# Altium footprint library Minna Project.PcbLib: 20 footprints (part 1 of 2)
Each footprint in its own frame and in the unit in brackets; x right, y up, seen from the top. Pads: shape width x height; smd on the part's side, far side on the other; paste and mask are expansions set on the pad; w line width, h text height; cw(c..) or ccw(c..) is an arc to the next point about the centre after c.
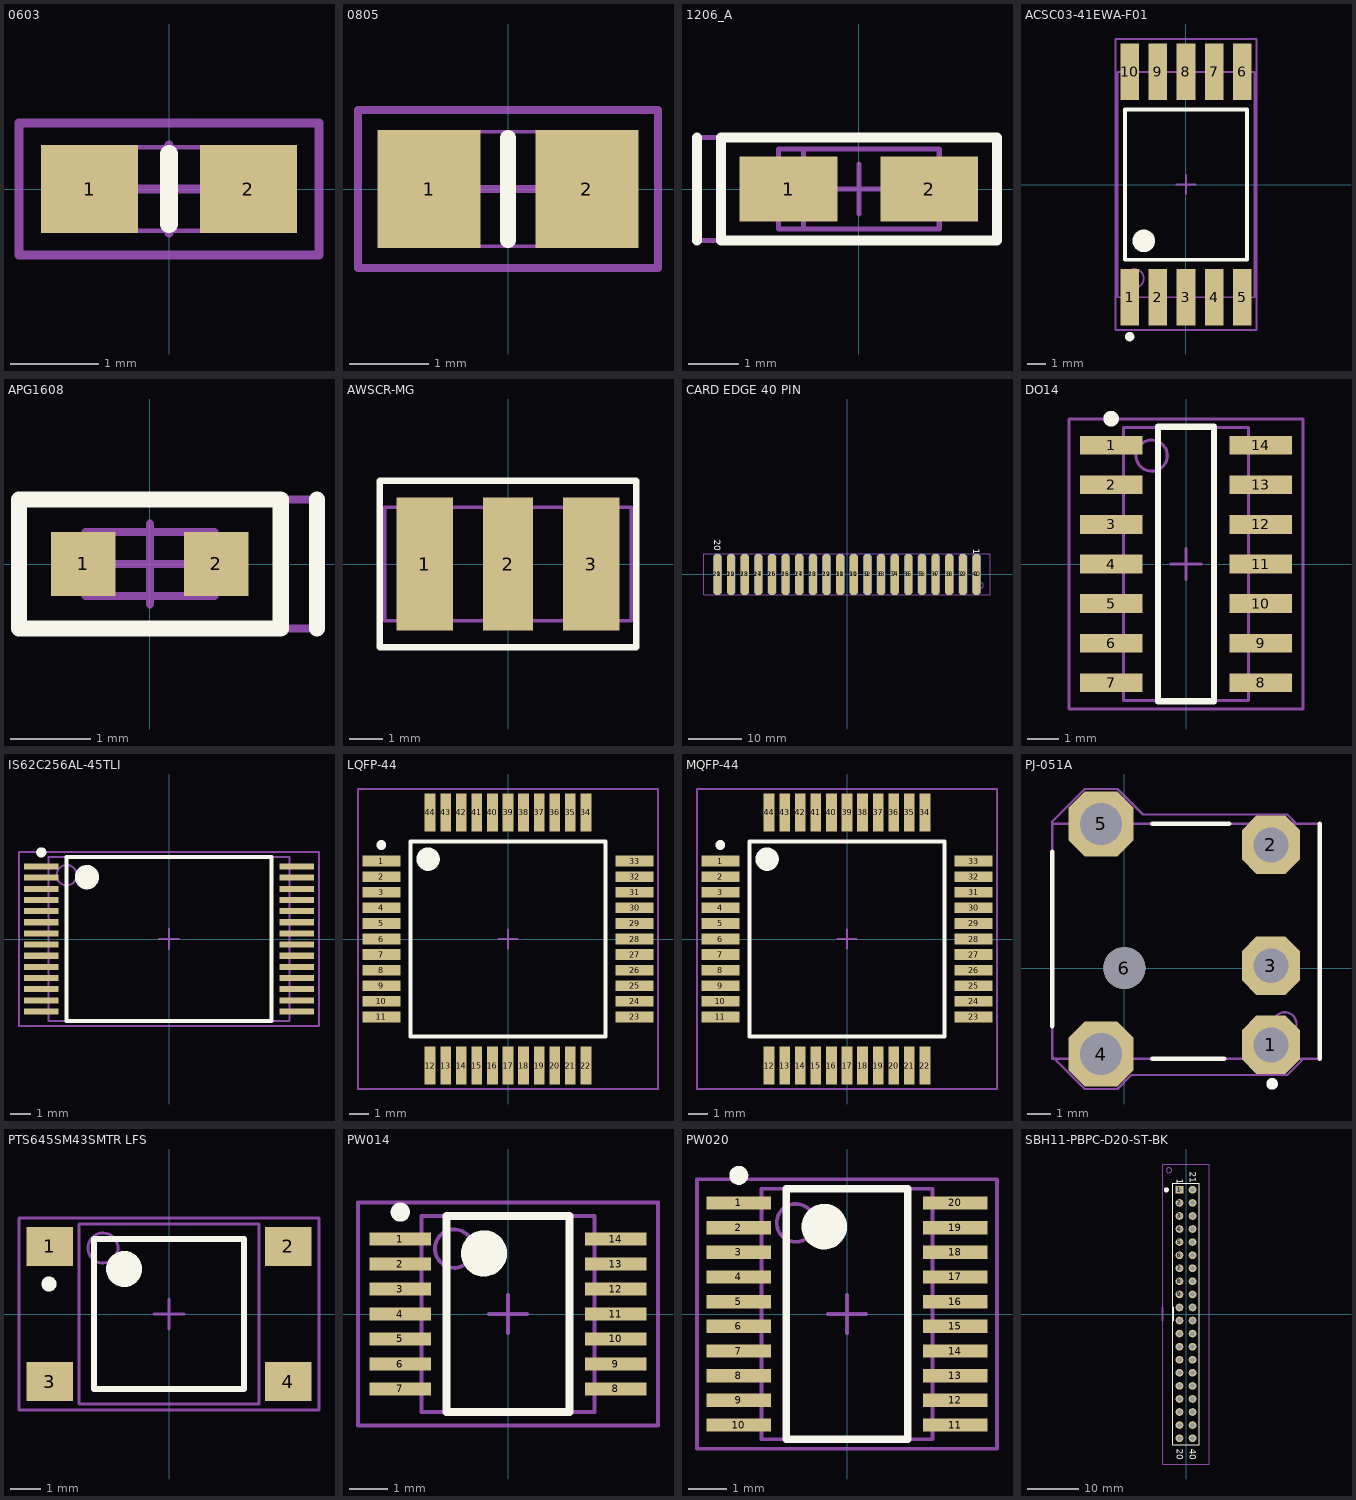
[diagram p0: the footprints below, top view; thin cyan lines are the x and y axes]

## 0603 [mm]
height 0.8
pads (2):
  rect 1.1x1 smd: 1(-0.9,0) 2(0.9,0)
Top Overlay:
  lines w0.2: 0,-0.4 0,0.4
Component Body:
  lines w0.05: -0.875,-0.475 0.875,-0.475 0.875,0.475 -0.875,0.475 -0.875,-0.475
Assembly Top:
  lines w0.102: -1.7,-0.75 1.7,-0.75 1.7,0.75 -1.7,0.75 -1.7,-0.75
  text ".Designator" at -0.972,-0.345 h0.64
Courtyard Top:
  lines w0.1: -0.5,0 0.5,0 ; 0,-0.5 0,0.5 ; -1.7,-0.75 1.7,-0.75 1.7,0.75 -1.7,0.75 -1.7,-0.75
3D body: height 0.8, standoff 0, extent -0.874,-0.474 0.874,0.474

## 0805 [mm]
height 1
pads (2):
  rect 1.3x1.5 smd: 1(-1,0) 2(1,0)
Top Overlay:
  lines w0.2: 0,-0.65 0,0.65
Component Body:
  lines w0.05: -1.1,-0.725 -1.1,0.725 1.1,0.725 1.1,-0.725 -1.1,-0.725
Assembly Top:
  lines w0.102: -1.9,-1 -1.9,1 1.9,1 1.9,-1 -1.9,-1
  text ".Designator" at -0.659,-0.45 h0.64
Courtyard Top:
  lines w0.1: -0.5,0 0.5,0 ; 0,-0.5 0,0.5 ; -1.9,-1 -1.9,1 1.9,1 1.9,-1 -1.9,-1
3D body: height 1.27, standoff 0, extent -1.099,-0.724 1.099,0.724

## 1206_A [mm]
height 1.8
pads (2):
  rect 1.95x1.3 smd: 1(-1.4,0) 2(1.4,0)
Top Overlay:
  lines w0.2: -3.225,-1.025 -3.225,1.025 ; -2.75,-1.025 2.75,-1.025 2.75,1.025 -2.75,1.025 -2.75,-1.025
Component Body:
  lines w0.1: -1.6,-0.8 1.6,-0.8 1.6,0.8 -1.6,0.8 -1.6,-0.8
Assembly Top:
  lines w0.1: -1.1,-0.8 -1.1,0.8 ; -1.6,-0.8 1.6,-0.8 1.6,0.8 -1.6,0.8 -1.6,-0.8
  text ".Designator" at -0.5,-0.4 h0.76
Courtyard Top:
  lines w0.1: -0.5,0 0.5,0 ; 0,-0.5 0,0.5 ; -3.225,-1.025 2.75,-1.025 2.75,1.025 -3.225,1.025 -3.225,-1.025
3D body: height 1.8, standoff 0, extent -1.6,-0.8 1.6,0.8

## ACSC03-41EWA-F01 [mm] "DISPLAY 0.3\" 627NM SGL RED SMD"
height 3.75
pads (10):
  rect 1x3 smd: 1(-3,-6) 2(-1.5,-6) 3(0,-6) 4(1.5,-6) 5(3,-6) 6(3,6) 7(1.5,6) 8(0,6) 9(-1.5,6) 10(-3,6)
Top Overlay:
  circle w0.25: c-3,-8.1 r0.125
  circle w0.6: c-2.25,-3 r0.3
  lines w0.2: -3.25,-4 3.25,-4 3.25,4 -3.25,4 -3.25,-4
Component Body:
  lines w0.1: -3.65,-6 3.65,-6 3.65,6 -3.65,6 -3.65,-6
Assembly Top:
  circle w0.1: c-2.75,-5 r0.5
  lines w0.1: -3.65,-6 -3.65,6 3.65,6 3.65,-6 -3.65,-6
  text ".Designator" at -0.5,-0.4 h0.76
Courtyard Top:
  lines w0.1: -0.5,0 0.5,0 ; 0,-0.5 0,0.5 ; -3.75,-7.75 3.75,-7.75 3.75,7.75 -3.75,7.75 -3.75,-7.75
3D body: height 3.75, standoff 0, extent -3.65,-6 3.65,6

## APG1608 [mm] "1.6mm X 0.8mm SMD LED"
height 0.25
pads (2):
  rect 0.8x0.8 smd: 1(-0.825,0) 2(0.825,0)
Top Overlay:
  lines w0.2: 2.075,-0.8 2.075,0.8 ; -1.625,-0.8 1.625,-0.8 1.625,0.8 -1.625,0.8 -1.625,-0.8
Component Body:
  lines w0.1: -0.8,-0.4 0.8,-0.4 0.8,0.4 -0.8,0.4 -0.8,-0.4
Assembly Top:
  lines w0.1: 1.625,-0.8 2.1,-0.8 2.1,0.8 1.625,0.8 ; 1.625,-0.8 -1.625,-0.8 -1.625,0.8 1.625,0.8 ; 1.625,-0.8 1.625,0.8
  text ".Designator" at -0.5,-0.4 h0.76
Courtyard Top:
  lines w0.1: -0.5,0 0.5,0 ; 0,-0.5 0,0.5 ; -1.625,-0.8 2.075,-0.8 2.075,0.8 -1.625,0.8 -1.625,-0.8
3D body: height 1.8, standoff 0, extent -0.8,-0.4 0.8,0.4

## AWSCR-MG [mm] "CERAMIC RESONATOR 7.4 x 3.4 x 1.8mm 3-SMD"
height 1.8
pads (3):
  rect 1.7x4 smd: 1(-2.5,0) 3(2.5,0)
  rect 1.5x4 smd: 2(0,0)
Top Overlay:
  lines w0.2: -3.85,-2.5 3.85,-2.5 3.85,2.5 -3.85,2.5 -3.85,-2.475
Component Body:
  lines w0.1: -3.7,-1.7 3.7,-1.7 3.7,1.7 -3.7,1.7 -3.7,-1.7
Assembly Top:
  lines w0.102: -3.7,-1.7 3.7,-1.7 3.7,1.7 -3.7,1.7 -3.7,-1.7
  text ".Designator" at -0.5,-0.4 h0.76
Courtyard Top:
  lines w0.1: -0.5,0 0.5,0 ; 0,-0.5 0,0.5 ; -3.85,-2.5 3.85,-2.5 3.85,2.5 -3.85,2.5 -3.85,-2.5
3D body: height 1.8, standoff 0, extent -3.7,-1.7 3.7,1.7

## CARD EDGE 40 PIN [mil] "CARD EDGE 40 PIN FOR CWR-170-40-0000"
pads (40):
  oct 60x300 smd: 1(950,0) 2(850,0) 3(750,0) 4(650,0) 5(550,0) 6(450,0) 7(350,0) 8(250,0) 9(150,0) 10(50,0) 11(-50,0) 12(-150,0) 13(-250,0) 14(-350,0) 15(-450,0) 16(-550,0) 17(-650,0) 18(-750,0) 19(-850,0) 20(-950,0)
  oct 60x300 smd far side: 21(-950,0) 22(-850,0) 23(-750,0) 24(-650,0) 25(-550,0) 26(-450,0) 27(-350,0) 28(-250,0) 29(-150,0) 30(-50,0) 31(50,0) 32(150,0) 33(250,0) 34(350,0) 35(450,0) 36(550,0) 37(650,0) 38(750,0) 39(850,0) 40(950,0)
Top Overlay:
  text "1" at 925,190 h48
  text "20" at -975,255 h48
Bottom Overlay:
  text "21" at -975,180 h48
  text "40" at 925,175 h48
Assembly Top:
  circle w3.94: c980.32,-80 r19.68
  lines w3.94: -1050,-150 -1050,150 1050,150 1050,-150 -1050,-150
  text ".Designator" at -15,30 h30
Courtyard Top:
  lines w3.94: -1050,-150 1050,-150 1050,150 -1050,150 -1050,-150

## DO14 [mm]
height 1.75
pads (14):
  rect 2x0.6 smd: 1(-2.4,3.81) 2(-2.4,2.54) 3(-2.4,1.27) 4(-2.4,0) 5(-2.4,-1.27) 6(-2.4,-2.54) 7(-2.4,-3.81) 8(2.4,-3.81) 9(2.4,-2.54) 10(2.4,-1.27) 11(2.4,0) 12(2.4,1.27) 13(2.4,2.54) 14(2.4,3.81)
Top Overlay:
  circle w0.25: c-2.4,4.66 r0.125
  lines w0.2: -0.9,-4.4 -0.9,4.4 0.9,4.4 0.9,-4.4 -0.9,-4.4
Component Body:
  lines w0.1: -2,-4.375 2,-4.375 2,4.375 -2,4.375 -2,-4.375
Assembly Top:
  circle w0.1: c-1.1,3.475 r0.5
  lines w0.1: -2,-4.375 -2,4.375 2,4.375 2,-4.375 -2,-4.375
  text ".Designator" at -0.4,0.5 h0.76
Courtyard Top:
  lines w0.1: -0.5,0 0.5,0 ; 0,-0.5 0,0.5 ; -3.75,-4.65 -3.75,4.65 3.75,4.65 3.75,-4.65 -3.75,-4.65
3D body: height 1.75, standoff 0, extent -2,-4.375 2,4.375

## IS62C256AL-45TLI [mm] "IC SRAM 256KBIT 45NS 28TSOP"
height 1.2
pads (28):
  rect 1.7x0.3 smd: 1(-6.3,3.575) 2(-6.3,3.025) 3(-6.3,2.475) 4(-6.3,1.925) 5(-6.3,1.375) 6(-6.3,0.825) 7(-6.3,0.275) 8(-6.3,-0.275) 9(-6.3,-0.825) 10(-6.3,-1.375) 11(-6.3,-1.925) 12(-6.3,-2.475) 13(-6.3,-3.025) 14(-6.3,-3.575) 15(6.3,-3.575) 16(6.3,-3.025) 17(6.3,-2.475) 18(6.3,-1.925) 19(6.3,-1.375) 20(6.3,-0.825) 21(6.3,-0.275) 22(6.3,0.275) 23(6.3,0.825) 24(6.3,1.375) 25(6.3,1.925) 26(6.3,2.475) 27(6.3,3.025) 28(6.3,3.575)
Top Overlay:
  circle w0.25: c-6.3,4.275 r0.125
  circle w0.6: c-4.05,3.05 r0.3
  lines w0.2: -5.05,-4.05 -5.05,4.05 5.05,4.05 5.05,-4.05 -5.05,-4.05
Component Body:
  lines w0.1: -5.95,-4.05 5.95,-4.05 5.95,4.05 -5.95,4.05 -5.95,-4.05
Assembly Top:
  circle w0.1: c-5.05,3.15 r0.5
  lines w0.1: -5.95,-4.05 -5.95,4.05 5.95,4.05 5.95,-4.05 -5.95,-4.05
  text ".Designator" at -0.37,0.424 h0.76
Courtyard Top:
  lines w0.1: -0.5,0 0.5,0 ; 0,-0.5 0,0.5 ; -7.4,-4.3 -7.4,4.3 7.4,4.3 7.4,-4.3 -7.4,-4.3
3D body: height 1.2, standoff 0.05, extent -5.95,-4.05 5.95,4.05

## LQFP-44 [mm] "44-Lead Plastic Low-Profile Quad Flat Package (10 x 10 x 1.4 mm)"
height 1.6
pads (44):
  rect 1.95x0.55 smd: 1(-6.5,4) 2(-6.5,3.2) 3(-6.5,2.4) 4(-6.5,1.6) 5(-6.5,0.8) 6(-6.5,0) 7(-6.5,-0.8) 8(-6.5,-1.6) 9(-6.5,-2.4) 10(-6.5,-3.2) 11(-6.5,-4) 23(6.5,-4) 24(6.5,-3.2) 25(6.5,-2.4) 26(6.5,-1.6) 27(6.5,-0.8) 28(6.5,0) 29(6.5,0.8) 30(6.5,1.6) 31(6.5,2.4) 32(6.5,3.2) 33(6.5,4)
  rect 0.55x1.95 smd: 12(-4,-6.5) 13(-3.2,-6.5) 14(-2.4,-6.5) 15(-1.6,-6.5) 16(-0.8,-6.5) 17(0,-6.5) 18(0.8,-6.5) 19(1.6,-6.5) 20(2.4,-6.5) 21(3.2,-6.5) 22(4,-6.5) 34(4,6.5) 35(3.2,6.5) 36(2.4,6.5) 37(1.6,6.5) 38(0.8,6.5) 39(0,6.5) 40(-0.8,6.5) 41(-1.6,6.5) 42(-2.4,6.5) 43(-3.2,6.5) 44(-4,6.5)
Top Overlay:
  circle w0.6: c-4.1,4.1 r0.3
  circle w0.25: c-6.5,4.825 r0.125
  lines w0.2: -5,-5 5,-5 5,5 -5,5 -5,-5
Component Body:
  lines w0.1: -5,-5 -5,5 5,5 5,-5 -5,-5
Assembly Top:
  circle w0.1: c-4.1,4.1 r0.5
  lines w0.1: -5,-5 5,-5 5,5 -5,5 -5,-5
  text ".Designator" at -0.37,0.424 h0.76
Courtyard Top:
  lines w0.1: -0.5,0 0.5,0 ; 0,-0.5 0,0.5 ; -7.7,-7.7 7.7,-7.7 7.7,7.7 -7.7,7.7 -7.7,-7.7
3D body: height 1.6, standoff 0, extent -5,-5 5,5

## MQFP-44 [mm] "44 LEAD METRIC PLASTIC QUAD FLATPACK 10x10"
height 2.45
pads (44):
  rect 1.95x0.55 smd: 1(-6.5,4) 2(-6.5,3.2) 3(-6.5,2.4) 4(-6.5,1.6) 5(-6.5,0.8) 6(-6.5,0) 7(-6.5,-0.8) 8(-6.5,-1.6) 9(-6.5,-2.4) 10(-6.5,-3.2) 11(-6.5,-4) 23(6.5,-4) 24(6.5,-3.2) 25(6.5,-2.4) 26(6.5,-1.6) 27(6.5,-0.8) 28(6.5,0) 29(6.5,0.8) 30(6.5,1.6) 31(6.5,2.4) 32(6.5,3.2) 33(6.5,4)
  rect 0.55x1.95 smd: 12(-4,-6.5) 13(-3.2,-6.5) 14(-2.4,-6.5) 15(-1.6,-6.5) 16(-0.8,-6.5) 17(0,-6.5) 18(0.8,-6.5) 19(1.6,-6.5) 20(2.4,-6.5) 21(3.2,-6.5) 22(4,-6.5) 34(4,6.5) 35(3.2,6.5) 36(2.4,6.5) 37(1.6,6.5) 38(0.8,6.5) 39(0,6.5) 40(-0.8,6.5) 41(-1.6,6.5) 42(-2.4,6.5) 43(-3.2,6.5) 44(-4,6.5)
Top Overlay:
  circle w0.6: c-4.1,4.1 r0.3
  circle w0.25: c-6.5,4.825 r0.125
  lines w0.2: -5,-5 5,-5 5,5 -5,5 -5,-5
Component Body:
  lines w0.1: -5,-5 -5,5 5,5 5,-5 -5,-5
Assembly Top:
  circle w0.1: c-4.1,4.1 r0.5
  lines w0.1: -5,-5 5,-5 5,5 -5,5 -5,-5
  text ".Designator" at -0.37,0.424 h0.76
Courtyard Top:
  lines w0.1: -0.5,0 0.5,0 ; 0,-0.5 0,0.5 ; -7.7,-7.7 7.7,-7.7 7.7,7.7 -7.7,7.7 -7.7,-7.7
3D body: height 2.45, standoff 0, extent -5,-5 5,5

## PJ-051A [mm] "DC POWER JACK"
height 7.3
pads (6):
  oct 2.5x2.5 hole 1.5: 1(6.3,-3.3) 2(6.3,5.3) 3(6.3,0.1)
  oct 2.8x2.8 hole 1.8: 4(-1,-3.7) 5(-1,6.2)
  round 1.8 hole 1.8 unplated: 6(0,0)
Top Overlay:
  circle w0.25: c6.352,-4.978 r0.125
  lines w0.2: -3.1,-2.5 -3.1,5 ; 1.2,-3.9 4.3,-3.9 ; 1.2,6.2 4.5,6.2 ; 8.4,-3.9 8.4,6.2
Component Body:
  lines w0.1: -3.1,-3.9 8.4,-3.9 8.4,6.2 -3.1,6.2 -3.1,-3.9
Assembly Top:
  circle w0.1: c6.9,-2.4 r0.5
  lines w0.1: -3.1,-3.9 -3.1,6.2 8.4,6.2 8.4,-3.9 -3.1,-3.9
  text ".Designator" at 3.81,-0.635 h0.76
Courtyard Top:
  lines w0.1: -3.1,-3.8 -1.7,-5.2 -0.3,-5.2 0.3,-4.6 7,-4.6 7.7,-3.9 8.4,-3.9 8.4,6.2 7.4,6.2 7,6.6 0.8,6.6 -0.3,7.7 -1.7,7.7 -3.1,6.3 -3.1,-3.8
3D body: height 7.3, standoff 0, extent -3.1,-3.9 8.4,6.2

## PTS645SM43SMTR LFS [mm] "SWITCH TACT 6MM 160GF H=4.3MM"
height 4.3
pads (4):
  rect 1.55x1.3 smd: 1(-3.975,2.25) 2(3.975,2.25) 3(-3.975,-2.25) 4(3.975,-2.25)
Top Overlay:
  circle w0.25: c-4,1 r0.125
  circle w0.6: c-1.5,1.5 r0.3
  lines w0.2: -2.5,-2.5 -2.5,2.5 2.5,2.5 2.5,-2.5 -2.5,-2.5
Component Body:
  lines w0.1: -3,-3 -3,3 3,3 3,-3 -3,-3
Assembly Top:
  circle w0.1: c-2.2,2.2 r0.5
  lines w0.1: -3,-3 -3,3 3,3 3,-3 -3,-3
  text ".Designator" at -0.5,-0.4 h0.76
Courtyard Top:
  lines w0.1: -5,-3.2 5,-3.2 ; -5,-3.15 -5,3.2 5,3.2 5,-3.15 ; -0.5,0 0.5,0 ; 0,-0.5 0,0.5
3D body: height 4.3, standoff 0, extent -3,-3 3,3

## PW014 [mm]
height 1.2
pads (14):
  rect 1.6x0.35 smd: 1(-2.8,1.95) 2(-2.8,1.3) 3(-2.8,0.65) 4(-2.8,0) 5(-2.8,-0.65) 6(-2.8,-1.3) 7(-2.8,-1.95) 8(2.8,-1.95) 9(2.8,-1.3) 10(2.8,-0.65) 11(2.8,0) 12(2.8,0.65) 13(2.8,1.3) 14(2.8,1.95)
Top Overlay:
  circle w0.25: c-2.8,2.65 r0.125
  circle w0.6: c-0.625,1.575 r0.3
  lines w0.2: -1.6,-2.55 1.6,-2.55 1.6,2.55 -1.6,2.55 -1.6,-2.55
Component Body:
  lines w0.1: -2.25,-2.55 -2.25,2.55 2.25,2.55 2.25,-2.55 -2.25,-2.55
Assembly Top:
  circle w0.1: c-1.4,1.7 r0.5
  lines w0.1: -2.25,-2.55 2.25,-2.55 2.25,2.55 -2.25,2.55 -2.25,-2.55
  text ".Designator" at -0.3,0.4 h0.76
Courtyard Top:
  lines w0.1: -0.5,0 0.5,0 ; 0,-0.5 0,0.5 ; -3.9,-2.9 3.9,-2.9 3.9,2.9 -3.9,2.9 -3.9,-2.9
3D body: height 1.2, standoff 0, extent -2.25,-2.55 2.25,2.55

## PW020 [mm]
height 1.2
pads (20):
  rect 1.7x0.35 smd: 1(-2.85,2.925) 2(-2.85,2.275) 3(-2.85,1.625) 4(-2.85,0.975) 5(-2.85,0.325) 6(-2.85,-0.325) 7(-2.85,-0.975) 8(-2.85,-1.625) 9(-2.85,-2.275) 10(-2.85,-2.925) 11(2.85,-2.925) 12(2.85,-2.275) 13(2.85,-1.625) 14(2.85,-0.975) 15(2.85,-0.325) 16(2.85,0.325) 17(2.85,0.975) 18(2.85,1.625) 19(2.85,2.275) 20(2.85,2.925)
Top Overlay:
  circle w0.25: c-2.85,3.65 r0.125
  circle w0.6: c-0.6,2.3 r0.3
  lines w0.2: -1.6,-3.3 -1.6,3.3 1.6,3.3 1.6,-3.3 -1.6,-3.3
Component Body:
  lines w0.1: -2.25,-3.3 2.25,-3.3 2.25,3.3 -2.25,3.3 -2.25,-3.3
Assembly Top:
  circle w0.1: c-1.35,2.4 r0.5
  lines w0.1: -2.25,-3.3 -2.25,3.3 2.25,3.3 2.25,-3.3 -2.25,-3.3
  text ".Designator" at -0.3,0.4 h0.76
Courtyard Top:
  lines w0.1: -0.5,0 0.5,0 ; 0,-0.5 0,0.5 ; -3.95,-3.55 -3.95,3.55 3.95,3.55 3.95,-3.55 -3.95,-3.55
3D body: height 1.2, standoff 0, extent -2.25,-3.3 2.25,3.3

## SBH11-PBPC-D20-ST-BK [mm] "CONN HEADER 2.54MM 40POS GOLD"
height 9.1
pads (40):
  rect 1.5x1.5 hole 0.9: 1(-1.27,24.13)
  round 1.5 hole 0.9: 2(-1.27,21.59) 3(-1.27,19.05) 4(-1.27,16.51) 5(-1.27,13.97) 6(-1.27,11.43) 7(-1.27,8.89) 8(-1.27,6.35) 9(-1.27,3.81) 10(-1.27,1.27) 11(-1.27,-1.27) 12(-1.27,-3.81) 13(-1.27,-6.35) 14(-1.27,-8.89) 15(-1.27,-11.43) 16(-1.27,-13.97) 17(-1.27,-16.51) 18(-1.27,-19.05) 19(-1.27,-21.59) 20(-1.27,-24.13) 21(1.27,24.13) 22(1.27,21.59) 23(1.27,19.05) 24(1.27,16.51) 25(1.27,13.97) 26(1.27,11.43) 27(1.27,8.89) 28(1.27,6.35) 29(1.27,3.81) 30(1.27,1.27) 31(1.27,-1.27) 32(1.27,-3.81) 33(1.27,-6.35) 34(1.27,-8.89) 35(1.27,-11.43) 36(1.27,-13.97) 37(1.27,-16.51) 38(1.27,-19.05) 39(1.27,-21.59) 40(1.27,-24.13)
Top Overlay:
  circle w0.5: c-3.81,24.13 r0.25
  lines w0.2: -2.54,-25.4 2.54,-25.4 2.54,25.4 -2.54,25.4 -2.54,-25.4
  lines w0.4: -2.54,-1.27 -2.54,1.27
  text "20" at -1.778,-26.162 h1.27
  text "40" at 0.762,-26.162 h1.27
  text "21" at 0.73,27.63 h1.27
  text "1" at -1.77,26.33 h1.27
Component Body:
  lines w0.1: -4.55,-29.15 -4.55,29.15 4.55,29.15 4.55,-29.15 -4.55,-29.15
Assembly Top:
  circle w0.1: c-3.302,27.94 r0.5
  lines w0.1: -4.55,-29.15 4.55,-29.15 4.55,29.15 -4.55,29.15 -4.55,-29.15
  lines w0.4: -4.55,-1.27 -4.55,1.27
  text ".Designator" at -0.178,0.432 h0.76
Courtyard Top:
  lines w0.1: -4.55,-29.15 4.55,-29.15 4.55,29.15 -4.55,29.15 -4.55,-29.15
3D body: height 8.8, standoff 0.3, extent -4.55,-29.15 4.55,29.15